# Altium footprint library C_RM10.PcbLib: 1 footprints
Each footprint in its own frame and in the unit in brackets; x right, y up, seen from the top. Pads: shape width x height; smd on the part's side, far side on the other; paste and mask are expansions set on the pad; w line width, h text height; cw(c..) or ccw(c..) is an arc to the next point about the centre after c.
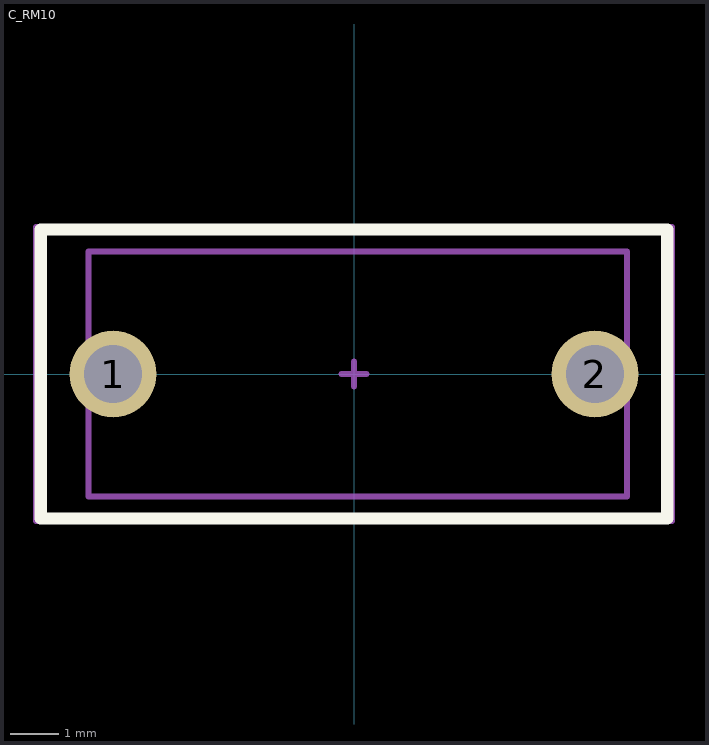
[diagram p0: the footprint, top view; thin cyan lines are the x and y axes]

## C_RM10 [mm]
pads (2):
  round 1.8 hole 1.2: 1(-5,0) 2(5,0)
Top Overlay:
  lines w0.254: -6.5,-3 6.5,-3 6.5,3 -6.5,3 -6.5,-3
Top Assembly:
  lines w0.127: -5.508,-2.54 -5.508,2.54 5.668,2.54 5.668,-2.54 -5.508,-2.54
Top Courtyard:
  lines w0.127: -0.254,0 0.254,0 ; 0,-0.254 0,0.254 ; -6.604,-3.048 -6.604,3.048 6.604,3.048 6.604,-3.048 -6.604,-3.048
3D body "User Library-capacitor 10mm pitch.step": height 12.5, standoff -4, extent -5.42,-2.5 5.58,2.5